# Altium footprint library DS1031-06-2X3P8BV41-3A.PcbLib: 1 footprints
Each footprint in its own frame and in the unit in brackets; x right, y up, seen from the top. Pads: shape width x height; smd on the part's side, far side on the other; paste and mask are expansions set on the pad; w line width, h text height; cw(c..) or ccw(c..) is an arc to the next point about the centre after c.
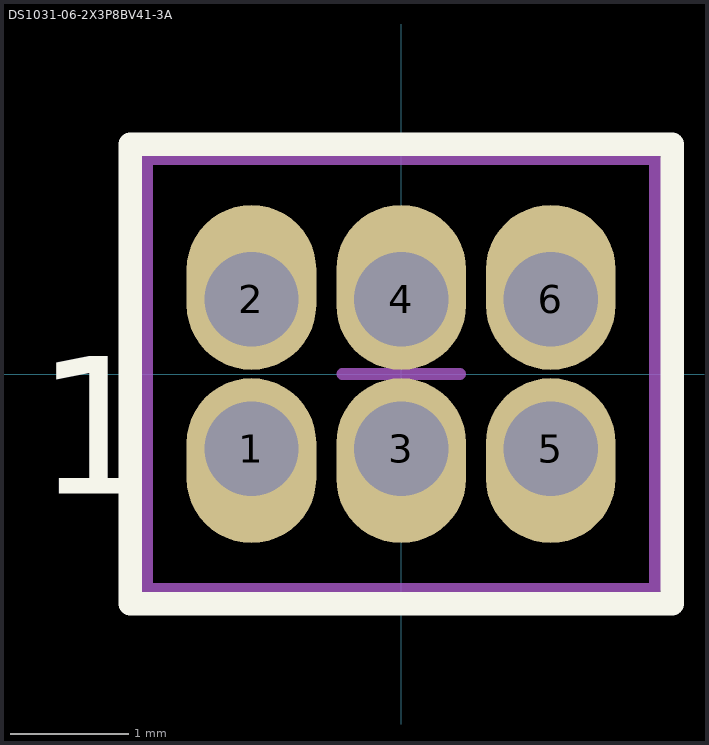
[diagram p0: the footprint, top view; thin cyan lines are the x and y axes]

## DS1031-06-2X3P8BV41-3A [mm]
height 6.2
pads (6):
  oval 1.1x1.4 hole 0.8 copper offset 0,-0.1: 1(-1.27,-0.635) 3(0,-0.635) 5(1.27,-0.635)
  oval 1.1x1.4 hole 0.8 copper offset 0,0.1: 2(-1.27,0.635) 4(0,0.635) 6(1.27,0.635)
Top Overlay:
  lines w0.2: -2.3,-1.95 2.3,-1.95 2.3,1.95 -2.3,1.95 -2.3,-1.95
  text "1" at -3.1,-1.4 h2
Mechanical 13:
  lines w0.1: -2.155,-1.825 2.155,-1.825 2.155,1.825 -2.155,1.825 -2.155,-1.825
  text ".Designator" at -4.5,2.5 h2
Mechanical 15:
  lines w0.1: -0.5,0 0.5,0 ; 0,-0.5 0,0.5
3D body "DS1031-06-2X3P8BV41-3A.STEP": height 6.15, standoff -2.3, extent -2.155,-1.825 2.155,1.825